# EAGLE library part NUP2202 (library Custom)
NUP2202 - 5V TVS
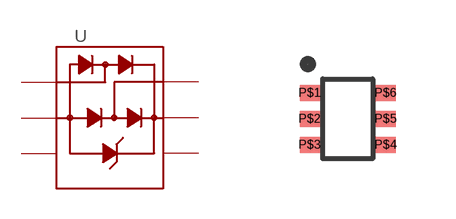
[diagram p9: symbol with the pads of SC-88; footprint SC-88]

Designator prefix -

## NUP2202  [SC-88]
P$1  P$1
P$2  P$2  pwr
P$3  P$3  nc
P$4  P$4  nc
P$5  P$5  pwr
P$6  P$6

## Footprint SC-88 (pad centres in mm)
smd 0.5 x 0.4: P$1 -0.95,0.65; P$2 -0.95,0; P$3 -0.95,-0.65; P$4 0.95,-0.65; P$5 0.95,0; P$6 0.95,0.65